# Altium integrated library ON Semi Power Mgt Voltage Regulator.IntLib: 495 symbols (part 7 of 8)
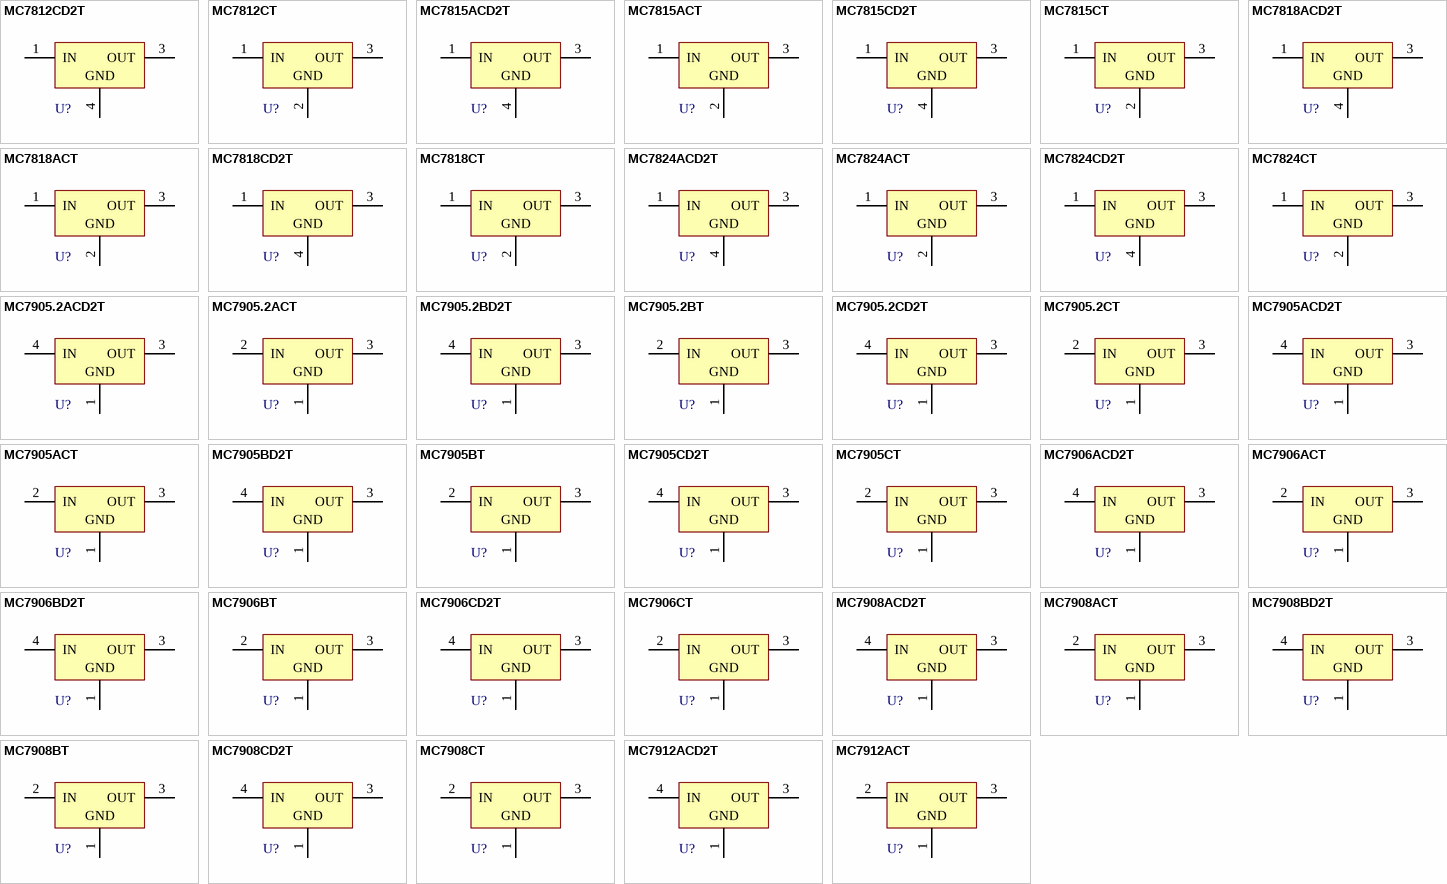
[diagram p18: symbols MC7812CD2T to MC7912ACT]

## MC7906CD2T
designator U?
Three-Terminal Negative Voltage Regulator; Note: Pin 4 is TAB; Pin 2 is trimmed; Published: 15-Apr-2002; DatasheetVersion: 1996; PackageVersion: 1997; PackageReference: 936-03; Publisher: Altium Limited; PackageDescription: D2-PAK/TO-263-AB; 3 Leads (1 Cropped); Body 14.7 (inc. leads) x 10.2 mm (LxW max); ComponentLink1Description: Manufacturer Link; ComponentLink1URL: http://www.onsemi.com/site/products/taxonomy/0,4438,503,00.html; ComponentLink2Description: Datasheet; ComponentLink2URL: http://www.onsemi.com/pub/Collateral/MC7900-D.PDF
footprint 936-03 (D2-PAK/TO-263-AB; 3 Leads (1 Cropped); Body 14.7 (inc. leads) x 10.2 mm (LxW max))
pins: 1 GND (power), 3 OUT (power), 4 IN (power)

## MC7906CT
designator U?
Three-Terminal Negative Voltage Regulator; Note: Heatsink surface connected to Pin 2; Published: 15-Apr-2002; DatasheetVersion: 1996; PackageReference: 221A-09; Publisher: Altium Limited; PackageDescription: TO, Thru-Hole, Vertical, Heatsink Mounted; 3 In-Line Leads; Pitch 2.54 mm; Code_JEDEC: TO-262-AA; ComponentLink1Description: Manufacturer Link; ComponentLink1URL: http://www.onsemi.com/site/products/taxonomy/0,4438,503,00.html; ComponentLink2Description: Datasheet; ComponentLink2URL: http://www.onsemi.com/pub/Collateral/MC7900-D.PDF
footprint 221A-09 (TO, Thru-Hole, Vertical, Heatsink Mounted; 3 In-Line Leads; Pitch 2.54 mm)
pins: 1 GND (power), 2 IN (power), 3 OUT (power)

## MC7908ACD2T
designator U?
Three-Terminal Negative Voltage Regulator; Note: Pin 4 is TAB; Pin 2 is trimmed; Published: 15-Apr-2002; DatasheetVersion: 1996; PackageVersion: 1997; PackageReference: 936-03; Publisher: Altium Limited; PackageDescription: D2-PAK/TO-263-AB; 3 Leads (1 Cropped); Body 14.7 (inc. leads) x 10.2 mm (LxW max); ComponentLink1Description: Manufacturer Link; ComponentLink1URL: http://www.onsemi.com/site/products/taxonomy/0,4438,503,00.html; ComponentLink2Description: Datasheet; ComponentLink2URL: http://www.onsemi.com/pub/Collateral/MC7900-D.PDF
footprint 936-03 (D2-PAK/TO-263-AB; 3 Leads (1 Cropped); Body 14.7 (inc. leads) x 10.2 mm (LxW max))
pins: 1 GND (power), 3 OUT (power), 4 IN (power)

## MC7908ACT
designator U?
Three-Terminal Negative Voltage Regulator; Note: Heatsink surface connected to Pin 2; Published: 15-Apr-2002; DatasheetVersion: 1996; PackageReference: 221A-09; Publisher: Altium Limited; PackageDescription: TO, Thru-Hole, Vertical, Heatsink Mounted; 3 In-Line Leads; Pitch 2.54 mm; Code_JEDEC: TO-262-AA; ComponentLink1Description: Manufacturer Link; ComponentLink1URL: http://www.onsemi.com/site/products/taxonomy/0,4438,503,00.html; ComponentLink2Description: Datasheet; ComponentLink2URL: http://www.onsemi.com/pub/Collateral/MC7900-D.PDF
footprint 221A-09 (TO, Thru-Hole, Vertical, Heatsink Mounted; 3 In-Line Leads; Pitch 2.54 mm)
pins: 1 GND (power), 2 IN (power), 3 OUT (power)

## MC7908BD2T
designator U?
Three-Terminal Negative Voltage Regulator; Note: Pin 4 is TAB; Pin 2 is trimmed; Published: 15-Apr-2002; DatasheetVersion: 1996; PackageVersion: 1997; PackageReference: 936-03; Publisher: Altium Limited; PackageDescription: D2-PAK/TO-263-AB; 3 Leads (1 Cropped); Body 14.7 (inc. leads) x 10.2 mm (LxW max); ComponentLink1Description: Manufacturer Link; ComponentLink1URL: http://www.onsemi.com/site/products/taxonomy/0,4438,503,00.html; ComponentLink2Description: Datasheet; ComponentLink2URL: http://www.onsemi.com/pub/Collateral/MC7900-D.PDF
footprint 936-03 (D2-PAK/TO-263-AB; 3 Leads (1 Cropped); Body 14.7 (inc. leads) x 10.2 mm (LxW max))
pins: 1 GND (power), 3 OUT (power), 4 IN (power)

## MC7908BT
designator U?
Three-Terminal Negative Voltage Regulator; Note: Heatsink surface connected to Pin 2; Published: 15-Apr-2002; DatasheetVersion: 1996; PackageReference: 221A-09; Publisher: Altium Limited; PackageDescription: TO, Thru-Hole, Vertical, Heatsink Mounted; 3 In-Line Leads; Pitch 2.54 mm; Code_JEDEC: TO-262-AA; ComponentLink1Description: Manufacturer Link; ComponentLink1URL: http://www.onsemi.com/site/products/taxonomy/0,4438,503,00.html; ComponentLink2Description: Datasheet; ComponentLink2URL: http://www.onsemi.com/pub/Collateral/MC7900-D.PDF
footprint 221A-09 (TO, Thru-Hole, Vertical, Heatsink Mounted; 3 In-Line Leads; Pitch 2.54 mm)
pins: 1 GND (power), 2 IN (power), 3 OUT (power)

## MC7908CD2T
designator U?
Three-Terminal Negative Voltage Regulator; Note: Pin 4 is TAB; Pin 2 is trimmed; Published: 15-Apr-2002; DatasheetVersion: 1996; PackageVersion: 1997; PackageReference: 936-03; Publisher: Altium Limited; PackageDescription: D2-PAK/TO-263-AB; 3 Leads (1 Cropped); Body 14.7 (inc. leads) x 10.2 mm (LxW max); ComponentLink1Description: Manufacturer Link; ComponentLink1URL: http://www.onsemi.com/site/products/taxonomy/0,4438,503,00.html; ComponentLink2Description: Datasheet; ComponentLink2URL: http://www.onsemi.com/pub/Collateral/MC7900-D.PDF
footprint 936-03 (D2-PAK/TO-263-AB; 3 Leads (1 Cropped); Body 14.7 (inc. leads) x 10.2 mm (LxW max))
pins: 1 GND (power), 3 OUT (power), 4 IN (power)

## MC7908CT
designator U?
Three-Terminal Negative Voltage Regulator; Note: Heatsink surface connected to Pin 2; Published: 15-Apr-2002; DatasheetVersion: 1996; PackageReference: 221A-09; Publisher: Altium Limited; PackageDescription: TO, Thru-Hole, Vertical, Heatsink Mounted; 3 In-Line Leads; Pitch 2.54 mm; Code_JEDEC: TO-262-AA; ComponentLink1Description: Manufacturer Link; ComponentLink1URL: http://www.onsemi.com/site/products/taxonomy/0,4438,503,00.html; ComponentLink2Description: Datasheet; ComponentLink2URL: http://www.onsemi.com/pub/Collateral/MC7900-D.PDF
footprint 221A-09 (TO, Thru-Hole, Vertical, Heatsink Mounted; 3 In-Line Leads; Pitch 2.54 mm)
pins: 1 GND (power), 2 IN (power), 3 OUT (power)

## MC7912ACD2T
designator U?
Three-Terminal Negative Voltage Regulator; Note: Pin 4 is TAB; Pin 2 is trimmed; Published: 15-Apr-2002; DatasheetVersion: 1996; PackageVersion: 1997; PackageReference: 936-03; Publisher: Altium Limited; PackageDescription: D2-PAK/TO-263-AB; 3 Leads (1 Cropped); Body 14.7 (inc. leads) x 10.2 mm (LxW max); ComponentLink1Description: Manufacturer Link; ComponentLink1URL: http://www.onsemi.com/site/products/taxonomy/0,4438,503,00.html; ComponentLink2Description: Datasheet; ComponentLink2URL: http://www.onsemi.com/pub/Collateral/MC7900-D.PDF
footprint 936-03 (D2-PAK/TO-263-AB; 3 Leads (1 Cropped); Body 14.7 (inc. leads) x 10.2 mm (LxW max))
pins: 1 GND (power), 3 OUT (power), 4 IN (power)

## MC7912ACT
designator U?
Three-Terminal Negative Voltage Regulator; Note: Heatsink surface connected to Pin 2; Published: 15-Apr-2002; DatasheetVersion: 1996; PackageReference: 221A-09; Publisher: Altium Limited; PackageDescription: TO, Thru-Hole, Vertical, Heatsink Mounted; 3 In-Line Leads; Pitch 2.54 mm; Code_JEDEC: TO-262-AA; ComponentLink1Description: Manufacturer Link; ComponentLink1URL: http://www.onsemi.com/site/products/taxonomy/0,4438,503,00.html; ComponentLink2Description: Datasheet; ComponentLink2URL: http://www.onsemi.com/pub/Collateral/MC7900-D.PDF
footprint 221A-09 (TO, Thru-Hole, Vertical, Heatsink Mounted; 3 In-Line Leads; Pitch 2.54 mm)
pins: 1 GND (power), 2 IN (power), 3 OUT (power)

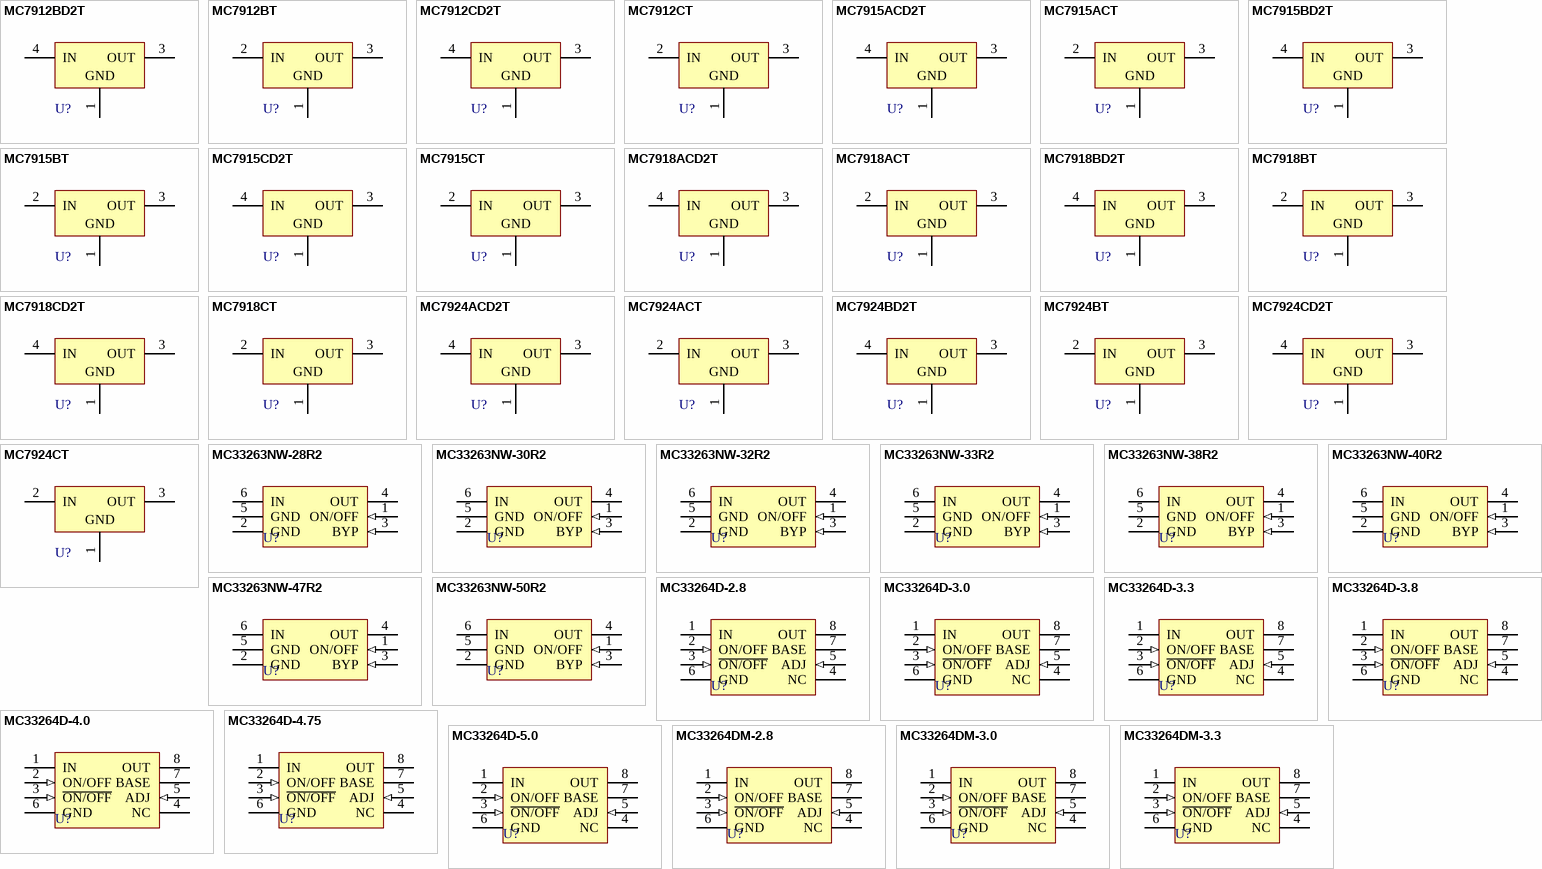
[diagram p10: symbols MC7912BD2T to MC33264DM-3.3]

## MC7912BD2T
designator U?
Three-Terminal Negative Voltage Regulator; Note: Pin 4 is TAB; Pin 2 is trimmed; Published: 15-Apr-2002; DatasheetVersion: 1996; PackageVersion: 1997; PackageReference: 936-03; Publisher: Altium Limited; PackageDescription: D2-PAK/TO-263-AB; 3 Leads (1 Cropped); Body 14.7 (inc. leads) x 10.2 mm (LxW max); ComponentLink1Description: Manufacturer Link; ComponentLink1URL: http://www.onsemi.com/site/products/taxonomy/0,4438,503,00.html; ComponentLink2Description: Datasheet; ComponentLink2URL: http://www.onsemi.com/pub/Collateral/MC7900-D.PDF
footprint 936-03 (D2-PAK/TO-263-AB; 3 Leads (1 Cropped); Body 14.7 (inc. leads) x 10.2 mm (LxW max))
pins: 1 GND (power), 3 OUT (power), 4 IN (power)

## MC7912BT
designator U?
Three-Terminal Negative Voltage Regulator; Note: Heatsink surface connected to Pin 2; Published: 15-Apr-2002; DatasheetVersion: 1996; PackageReference: 221A-09; Publisher: Altium Limited; PackageDescription: TO, Thru-Hole, Vertical, Heatsink Mounted; 3 In-Line Leads; Pitch 2.54 mm; Code_JEDEC: TO-262-AA; ComponentLink1Description: Manufacturer Link; ComponentLink1URL: http://www.onsemi.com/site/products/taxonomy/0,4438,503,00.html; ComponentLink2Description: Datasheet; ComponentLink2URL: http://www.onsemi.com/pub/Collateral/MC7900-D.PDF
footprint 221A-09 (TO, Thru-Hole, Vertical, Heatsink Mounted; 3 In-Line Leads; Pitch 2.54 mm)
pins: 1 GND (power), 2 IN (power), 3 OUT (power)

## MC7912CD2T
designator U?
Three-Terminal Negative Voltage Regulator; Note: Pin 4 is TAB; Pin 2 is trimmed; Published: 15-Apr-2002; DatasheetVersion: 1996; PackageVersion: 1997; PackageReference: 936-03; Publisher: Altium Limited; PackageDescription: D2-PAK/TO-263-AB; 3 Leads (1 Cropped); Body 14.7 (inc. leads) x 10.2 mm (LxW max); ComponentLink1Description: Manufacturer Link; ComponentLink1URL: http://www.onsemi.com/site/products/taxonomy/0,4438,503,00.html; ComponentLink2Description: Datasheet; ComponentLink2URL: http://www.onsemi.com/pub/Collateral/MC7900-D.PDF
footprint 936-03 (D2-PAK/TO-263-AB; 3 Leads (1 Cropped); Body 14.7 (inc. leads) x 10.2 mm (LxW max))
pins: 1 GND (power), 3 OUT (power), 4 IN (power)

## MC7912CT
designator U?
Three-Terminal Negative Voltage Regulator; Note: Heatsink surface connected to Pin 2; Published: 15-Apr-2002; DatasheetVersion: 1996; PackageReference: 221A-09; Publisher: Altium Limited; PackageDescription: TO, Thru-Hole, Vertical, Heatsink Mounted; 3 In-Line Leads; Pitch 2.54 mm; Code_JEDEC: TO-262-AA; ComponentLink1Description: Manufacturer Link; ComponentLink1URL: http://www.onsemi.com/site/products/taxonomy/0,4438,503,00.html; ComponentLink2Description: Datasheet; ComponentLink2URL: http://www.onsemi.com/pub/Collateral/MC7900-D.PDF
footprint 221A-09 (TO, Thru-Hole, Vertical, Heatsink Mounted; 3 In-Line Leads; Pitch 2.54 mm)
pins: 1 GND (power), 2 IN (power), 3 OUT (power)

## MC7915ACD2T
designator U?
Three-Terminal Negative Voltage Regulator; Note: Pin 4 is TAB; Pin 2 is trimmed; Published: 15-Apr-2002; DatasheetVersion: 1996; PackageVersion: 1997; PackageReference: 936-03; Publisher: Altium Limited; PackageDescription: D2-PAK/TO-263-AB; 3 Leads (1 Cropped); Body 14.7 (inc. leads) x 10.2 mm (LxW max); ComponentLink1Description: Manufacturer Link; ComponentLink1URL: http://www.onsemi.com/site/products/taxonomy/0,4438,503,00.html; ComponentLink2Description: Datasheet; ComponentLink2URL: http://www.onsemi.com/pub/Collateral/MC7900-D.PDF
footprint 936-03 (D2-PAK/TO-263-AB; 3 Leads (1 Cropped); Body 14.7 (inc. leads) x 10.2 mm (LxW max))
pins: 1 GND (power), 3 OUT (power), 4 IN (power)

## MC7915ACT
designator U?
Three-Terminal Negative Voltage Regulator; Note: Heatsink surface connected to Pin 2; Published: 15-Apr-2002; DatasheetVersion: 1996; PackageReference: 221A-09; Publisher: Altium Limited; PackageDescription: TO, Thru-Hole, Vertical, Heatsink Mounted; 3 In-Line Leads; Pitch 2.54 mm; Code_JEDEC: TO-262-AA; ComponentLink1Description: Manufacturer Link; ComponentLink1URL: http://www.onsemi.com/site/products/taxonomy/0,4438,503,00.html; ComponentLink2Description: Datasheet; ComponentLink2URL: http://www.onsemi.com/pub/Collateral/MC7900-D.PDF
footprint 221A-09 (TO, Thru-Hole, Vertical, Heatsink Mounted; 3 In-Line Leads; Pitch 2.54 mm)
pins: 1 GND (power), 2 IN (power), 3 OUT (power)

## MC7915BD2T
designator U?
Three-Terminal Negative Voltage Regulator; Note: Pin 4 is TAB; Pin 2 is trimmed; Published: 15-Apr-2002; DatasheetVersion: 1996; PackageVersion: 1997; PackageReference: 936-03; Publisher: Altium Limited; PackageDescription: D2-PAK/TO-263-AB; 3 Leads (1 Cropped); Body 14.7 (inc. leads) x 10.2 mm (LxW max); ComponentLink1Description: Manufacturer Link; ComponentLink1URL: http://www.onsemi.com/site/products/taxonomy/0,4438,503,00.html; ComponentLink2Description: Datasheet; ComponentLink2URL: http://www.onsemi.com/pub/Collateral/MC7900-D.PDF
footprint 936-03 (D2-PAK/TO-263-AB; 3 Leads (1 Cropped); Body 14.7 (inc. leads) x 10.2 mm (LxW max))
pins: 1 GND (power), 3 OUT (power), 4 IN (power)

## MC7915BT
designator U?
Three-Terminal Negative Voltage Regulator; Note: Heatsink surface connected to Pin 2; Published: 15-Apr-2002; DatasheetVersion: 1996; PackageReference: 221A-09; Publisher: Altium Limited; PackageDescription: TO, Thru-Hole, Vertical, Heatsink Mounted; 3 In-Line Leads; Pitch 2.54 mm; Code_JEDEC: TO-262-AA; ComponentLink1Description: Manufacturer Link; ComponentLink1URL: http://www.onsemi.com/site/products/taxonomy/0,4438,503,00.html; ComponentLink2Description: Datasheet; ComponentLink2URL: http://www.onsemi.com/pub/Collateral/MC7900-D.PDF
footprint 221A-09 (TO, Thru-Hole, Vertical, Heatsink Mounted; 3 In-Line Leads; Pitch 2.54 mm)
pins: 1 GND (power), 2 IN (power), 3 OUT (power)

## MC7915CD2T
designator U?
Three-Terminal Negative Voltage Regulator; Note: Pin 4 is TAB; Pin 2 is trimmed; Published: 15-Apr-2002; DatasheetVersion: 1996; PackageVersion: 1997; PackageReference: 936-03; Publisher: Altium Limited; PackageDescription: D2-PAK/TO-263-AB; 3 Leads (1 Cropped); Body 14.7 (inc. leads) x 10.2 mm (LxW max); ComponentLink1Description: Manufacturer Link; ComponentLink1URL: http://www.onsemi.com/site/products/taxonomy/0,4438,503,00.html; ComponentLink2Description: Datasheet; ComponentLink2URL: http://www.onsemi.com/pub/Collateral/MC7900-D.PDF
footprint 936-03 (D2-PAK/TO-263-AB; 3 Leads (1 Cropped); Body 14.7 (inc. leads) x 10.2 mm (LxW max))
pins: 1 GND (power), 3 OUT (power), 4 IN (power)

## MC7915CT
designator U?
Three-Terminal Negative Voltage Regulator; Note: Heatsink surface connected to Pin 2; Published: 15-Apr-2002; DatasheetVersion: 1996; PackageReference: 221A-09; Publisher: Altium Limited; PackageDescription: TO, Thru-Hole, Vertical, Heatsink Mounted; 3 In-Line Leads; Pitch 2.54 mm; Code_JEDEC: TO-262-AA; ComponentLink1Description: Manufacturer Link; ComponentLink1URL: http://www.onsemi.com/site/products/taxonomy/0,4438,503,00.html; ComponentLink2Description: Datasheet; ComponentLink2URL: http://www.onsemi.com/pub/Collateral/MC7900-D.PDF
footprint 221A-09 (TO, Thru-Hole, Vertical, Heatsink Mounted; 3 In-Line Leads; Pitch 2.54 mm)
pins: 1 GND (power), 2 IN (power), 3 OUT (power)

## MC7918ACD2T
designator U?
Three-Terminal Negative Voltage Regulator; Note: Pin 4 is TAB; Pin 2 is trimmed; Published: 15-Apr-2002; DatasheetVersion: 1996; PackageVersion: 1997; PackageReference: 936-03; Publisher: Altium Limited; PackageDescription: D2-PAK/TO-263-AB; 3 Leads (1 Cropped); Body 14.7 (inc. leads) x 10.2 mm (LxW max); ComponentLink1Description: Manufacturer Link; ComponentLink1URL: http://www.onsemi.com/site/products/taxonomy/0,4438,503,00.html; ComponentLink2Description: Datasheet; ComponentLink2URL: http://www.onsemi.com/pub/Collateral/MC7900-D.PDF
footprint 936-03 (D2-PAK/TO-263-AB; 3 Leads (1 Cropped); Body 14.7 (inc. leads) x 10.2 mm (LxW max))
pins: 1 GND (power), 3 OUT (power), 4 IN (power)

## MC7918ACT
designator U?
Three-Terminal Negative Voltage Regulator; Note: Heatsink surface connected to Pin 2; Published: 15-Apr-2002; DatasheetVersion: 1996; PackageReference: 221A-09; Publisher: Altium Limited; PackageDescription: TO, Thru-Hole, Vertical, Heatsink Mounted; 3 In-Line Leads; Pitch 2.54 mm; Code_JEDEC: TO-262-AA; ComponentLink1Description: Manufacturer Link; ComponentLink1URL: http://www.onsemi.com/site/products/taxonomy/0,4438,503,00.html; ComponentLink2Description: Datasheet; ComponentLink2URL: http://www.onsemi.com/pub/Collateral/MC7900-D.PDF
footprint 221A-09 (TO, Thru-Hole, Vertical, Heatsink Mounted; 3 In-Line Leads; Pitch 2.54 mm)
pins: 1 GND (power), 2 IN (power), 3 OUT (power)

## MC7918BD2T
designator U?
Three-Terminal Negative Voltage Regulator; Note: Pin 4 is TAB; Pin 2 is trimmed; Published: 15-Apr-2002; DatasheetVersion: 1996; PackageVersion: 1997; PackageReference: 936-03; Publisher: Altium Limited; PackageDescription: D2-PAK/TO-263-AB; 3 Leads (1 Cropped); Body 14.7 (inc. leads) x 10.2 mm (LxW max); ComponentLink1Description: Manufacturer Link; ComponentLink1URL: http://www.onsemi.com/site/products/taxonomy/0,4438,503,00.html; ComponentLink2Description: Datasheet; ComponentLink2URL: http://www.onsemi.com/pub/Collateral/MC7900-D.PDF
footprint 936-03 (D2-PAK/TO-263-AB; 3 Leads (1 Cropped); Body 14.7 (inc. leads) x 10.2 mm (LxW max))
pins: 1 GND (power), 3 OUT (power), 4 IN (power)

## MC7918BT
designator U?
Three-Terminal Negative Voltage Regulator; Note: Heatsink surface connected to Pin 2; Published: 15-Apr-2002; DatasheetVersion: 1996; PackageReference: 221A-09; Publisher: Altium Limited; PackageDescription: TO, Thru-Hole, Vertical, Heatsink Mounted; 3 In-Line Leads; Pitch 2.54 mm; Code_JEDEC: TO-262-AA; ComponentLink1Description: Manufacturer Link; ComponentLink1URL: http://www.onsemi.com/site/products/taxonomy/0,4438,503,00.html; ComponentLink2Description: Datasheet; ComponentLink2URL: http://www.onsemi.com/pub/Collateral/MC7900-D.PDF
footprint 221A-09 (TO, Thru-Hole, Vertical, Heatsink Mounted; 3 In-Line Leads; Pitch 2.54 mm)
pins: 1 GND (power), 2 IN (power), 3 OUT (power)

## MC7918CD2T
designator U?
Three-Terminal Negative Voltage Regulator; Note: Pin 4 is TAB; Pin 2 is trimmed; Published: 15-Apr-2002; DatasheetVersion: 1996; PackageVersion: 1997; PackageReference: 936-03; Publisher: Altium Limited; PackageDescription: D2-PAK/TO-263-AB; 3 Leads (1 Cropped); Body 14.7 (inc. leads) x 10.2 mm (LxW max); ComponentLink1Description: Manufacturer Link; ComponentLink1URL: http://www.onsemi.com/site/products/taxonomy/0,4438,503,00.html; ComponentLink2Description: Datasheet; ComponentLink2URL: http://www.onsemi.com/pub/Collateral/MC7900-D.PDF
footprint 936-03 (D2-PAK/TO-263-AB; 3 Leads (1 Cropped); Body 14.7 (inc. leads) x 10.2 mm (LxW max))
pins: 1 GND (power), 3 OUT (power), 4 IN (power)

## MC7918CT
designator U?
Three-Terminal Negative Voltage Regulator; Note: Heatsink surface connected to Pin 2; Published: 15-Apr-2002; DatasheetVersion: 1996; PackageReference: 221A-09; Publisher: Altium Limited; PackageDescription: TO, Thru-Hole, Vertical, Heatsink Mounted; 3 In-Line Leads; Pitch 2.54 mm; Code_JEDEC: TO-262-AA; ComponentLink1Description: Manufacturer Link; ComponentLink1URL: http://www.onsemi.com/site/products/taxonomy/0,4438,503,00.html; ComponentLink2Description: Datasheet; ComponentLink2URL: http://www.onsemi.com/pub/Collateral/MC7900-D.PDF
footprint 221A-09 (TO, Thru-Hole, Vertical, Heatsink Mounted; 3 In-Line Leads; Pitch 2.54 mm)
pins: 1 GND (power), 2 IN (power), 3 OUT (power)

## MC7924ACD2T
designator U?
Three-Terminal Negative Voltage Regulator; Note: Pin 4 is TAB; Pin 2 is trimmed; Published: 15-Apr-2002; DatasheetVersion: 1996; PackageVersion: 1997; PackageReference: 936-03; Publisher: Altium Limited; PackageDescription: D2-PAK/TO-263-AB; 3 Leads (1 Cropped); Body 14.7 (inc. leads) x 10.2 mm (LxW max); ComponentLink1Description: Manufacturer Link; ComponentLink1URL: http://www.onsemi.com/site/products/taxonomy/0,4438,503,00.html; ComponentLink2Description: Datasheet; ComponentLink2URL: http://www.onsemi.com/pub/Collateral/MC7900-D.PDF
footprint 936-03 (D2-PAK/TO-263-AB; 3 Leads (1 Cropped); Body 14.7 (inc. leads) x 10.2 mm (LxW max))
pins: 1 GND (power), 3 OUT (power), 4 IN (power)

## MC7924ACT
designator U?
Three-Terminal Negative Voltage Regulator; Note: Heatsink surface connected to Pin 2; Published: 15-Apr-2002; DatasheetVersion: 1996; PackageReference: 221A-09; Publisher: Altium Limited; PackageDescription: TO, Thru-Hole, Vertical, Heatsink Mounted; 3 In-Line Leads; Pitch 2.54 mm; Code_JEDEC: TO-262-AA; ComponentLink1Description: Manufacturer Link; ComponentLink1URL: http://www.onsemi.com/site/products/taxonomy/0,4438,503,00.html; ComponentLink2Description: Datasheet; ComponentLink2URL: http://www.onsemi.com/pub/Collateral/MC7900-D.PDF
footprint 221A-09 (TO, Thru-Hole, Vertical, Heatsink Mounted; 3 In-Line Leads; Pitch 2.54 mm)
pins: 1 GND (power), 2 IN (power), 3 OUT (power)

## MC7924BD2T
designator U?
Three-Terminal Negative Voltage Regulator; Note: Pin 4 is TAB; Pin 2 is trimmed; Published: 15-Apr-2002; DatasheetVersion: 1996; PackageVersion: 1997; PackageReference: 936-03; Publisher: Altium Limited; PackageDescription: D2-PAK/TO-263-AB; 3 Leads (1 Cropped); Body 14.7 (inc. leads) x 10.2 mm (LxW max); ComponentLink1Description: Manufacturer Link; ComponentLink1URL: http://www.onsemi.com/site/products/taxonomy/0,4438,503,00.html; ComponentLink2Description: Datasheet; ComponentLink2URL: http://www.onsemi.com/pub/Collateral/MC7900-D.PDF
footprint 936-03 (D2-PAK/TO-263-AB; 3 Leads (1 Cropped); Body 14.7 (inc. leads) x 10.2 mm (LxW max))
pins: 1 GND (power), 3 OUT (power), 4 IN (power)

## MC7924BT
designator U?
Three-Terminal Negative Voltage Regulator; Note: Heatsink surface connected to Pin 2; Published: 15-Apr-2002; DatasheetVersion: 1996; PackageReference: 221A-09; Publisher: Altium Limited; PackageDescription: TO, Thru-Hole, Vertical, Heatsink Mounted; 3 In-Line Leads; Pitch 2.54 mm; Code_JEDEC: TO-262-AA; ComponentLink1Description: Manufacturer Link; ComponentLink1URL: http://www.onsemi.com/site/products/taxonomy/0,4438,503,00.html; ComponentLink2Description: Datasheet; ComponentLink2URL: http://www.onsemi.com/pub/Collateral/MC7900-D.PDF
footprint 221A-09 (TO, Thru-Hole, Vertical, Heatsink Mounted; 3 In-Line Leads; Pitch 2.54 mm)
pins: 1 GND (power), 2 IN (power), 3 OUT (power)

## MC7924CD2T
designator U?
Three-Terminal Negative Voltage Regulator; Note: Pin 4 is TAB; Pin 2 is trimmed; Published: 15-Apr-2002; DatasheetVersion: 1996; PackageVersion: 1997; PackageReference: 936-03; Publisher: Altium Limited; PackageDescription: D2-PAK/TO-263-AB; 3 Leads (1 Cropped); Body 14.7 (inc. leads) x 10.2 mm (LxW max); ComponentLink1Description: Manufacturer Link; ComponentLink1URL: http://www.onsemi.com/site/products/taxonomy/0,4438,503,00.html; ComponentLink2Description: Datasheet; ComponentLink2URL: http://www.onsemi.com/pub/Collateral/MC7900-D.PDF
footprint 936-03 (D2-PAK/TO-263-AB; 3 Leads (1 Cropped); Body 14.7 (inc. leads) x 10.2 mm (LxW max))
pins: 1 GND (power), 3 OUT (power), 4 IN (power)

## MC7924CT
designator U?
Three-Terminal Negative Voltage Regulator; Note: Heatsink surface connected to Pin 2; Published: 15-Apr-2002; DatasheetVersion: 1996; PackageReference: 221A-09; Publisher: Altium Limited; PackageDescription: TO, Thru-Hole, Vertical, Heatsink Mounted; 3 In-Line Leads; Pitch 2.54 mm; Code_JEDEC: TO-262-AA; ComponentLink1Description: Manufacturer Link; ComponentLink1URL: http://www.onsemi.com/site/products/taxonomy/0,4438,503,00.html; ComponentLink2Description: Datasheet; ComponentLink2URL: http://www.onsemi.com/pub/Collateral/MC7900-D.PDF
footprint 221A-09 (TO, Thru-Hole, Vertical, Heatsink Mounted; 3 In-Line Leads; Pitch 2.54 mm)
pins: 1 GND (power), 2 IN (power), 3 OUT (power)

## MC33263NW-28R2
designator U?
Ultra Low Noise 150 mA Low Dropout Voltage Regulator with ON/OFF Control; Published: 15-Apr-2002; LatestRevisionDate: 19-Mar-2004; LatestRevisionNote: Silkscreen size reduced.; DatasheetVersion: Apr-2000; PackageVersion: Apr-2000; PackageReference: 318J-01; Publisher: Altium Limited; PackageDescription: Small Outline; 6 Leads; Body 3.6 x 3.6 mm, inc. leads (LxW max); ComponentLink1Description: Manufacturer Link; ComponentLink1URL: http://www.onsemi.com/site/products/taxonomy/0,4438,503,00.html; ComponentLink2Description: Datasheet; ComponentLink2URL: http://www.onsemi.com/pub/Collateral/MC33263-D.PDF
footprint 318J-01 (Small Outline; 6 Leads; Body 3.6 x 3.6 mm, inc. leads (LxW max))
pins: 1 ON/OFF (in), 2 GND (power), 3 BYP (in), 4 OUT (power), 5 GND (power), 6 IN (power)

## MC33263NW-30R2
designator U?
Ultra Low Noise 150 mA Low Dropout Voltage Regulator with ON/OFF Control; Published: 15-Apr-2002; LatestRevisionDate: 19-Mar-2004; LatestRevisionNote: Silkscreen size reduced.; DatasheetVersion: Apr-2000; PackageVersion: Apr-2000; PackageReference: 318J-01; Publisher: Altium Limited; PackageDescription: Small Outline; 6 Leads; Body 3.6 x 3.6 mm, inc. leads (LxW max); ComponentLink1Description: Manufacturer Link; ComponentLink1URL: http://www.onsemi.com/site/products/taxonomy/0,4438,503,00.html; ComponentLink2Description: Datasheet; ComponentLink2URL: http://www.onsemi.com/pub/Collateral/MC33263-D.PDF
footprint 318J-01 (Small Outline; 6 Leads; Body 3.6 x 3.6 mm, inc. leads (LxW max))
pins: 1 ON/OFF (in), 2 GND (power), 3 BYP (in), 4 OUT (power), 5 GND (power), 6 IN (power)

## MC33263NW-32R2
designator U?
Ultra Low Noise 150 mA Low Dropout Voltage Regulator with ON/OFF Control; Published: 15-Apr-2002; LatestRevisionDate: 19-Mar-2004; LatestRevisionNote: Silkscreen size reduced.; DatasheetVersion: Apr-2000; PackageVersion: Apr-2000; PackageReference: 318J-01; Publisher: Altium Limited; PackageDescription: Small Outline; 6 Leads; Body 3.6 x 3.6 mm, inc. leads (LxW max); ComponentLink1Description: Manufacturer Link; ComponentLink1URL: http://www.onsemi.com/site/products/taxonomy/0,4438,503,00.html; ComponentLink2Description: Datasheet; ComponentLink2URL: http://www.onsemi.com/pub/Collateral/MC33263-D.PDF
footprint 318J-01 (Small Outline; 6 Leads; Body 3.6 x 3.6 mm, inc. leads (LxW max))
pins: 1 ON/OFF (in), 2 GND (power), 3 BYP (in), 4 OUT (power), 5 GND (power), 6 IN (power)

## MC33263NW-33R2
designator U?
Ultra Low Noise 150 mA Low Dropout Voltage Regulator with ON/OFF Control; Published: 15-Apr-2002; LatestRevisionDate: 19-Mar-2004; LatestRevisionNote: Silkscreen size reduced.; DatasheetVersion: Apr-2000; PackageVersion: Apr-2000; PackageReference: 318J-01; Publisher: Altium Limited; PackageDescription: Small Outline; 6 Leads; Body 3.6 x 3.6 mm, inc. leads (LxW max); ComponentLink1Description: Manufacturer Link; ComponentLink1URL: http://www.onsemi.com/site/products/taxonomy/0,4438,503,00.html; ComponentLink2Description: Datasheet; ComponentLink2URL: http://www.onsemi.com/pub/Collateral/MC33263-D.PDF
footprint 318J-01 (Small Outline; 6 Leads; Body 3.6 x 3.6 mm, inc. leads (LxW max))
pins: 1 ON/OFF (in), 2 GND (power), 3 BYP (in), 4 OUT (power), 5 GND (power), 6 IN (power)

## MC33263NW-38R2
designator U?
Ultra Low Noise 150 mA Low Dropout Voltage Regulator with ON/OFF Control; Published: 15-Apr-2002; LatestRevisionDate: 19-Mar-2004; LatestRevisionNote: Silkscreen size reduced.; DatasheetVersion: Apr-2000; PackageVersion: Apr-2000; PackageReference: 318J-01; Publisher: Altium Limited; PackageDescription: Small Outline; 6 Leads; Body 3.6 x 3.6 mm, inc. leads (LxW max); ComponentLink1Description: Manufacturer Link; ComponentLink1URL: http://www.onsemi.com/site/products/taxonomy/0,4438,503,00.html; ComponentLink2Description: Datasheet; ComponentLink2URL: http://www.onsemi.com/pub/Collateral/MC33263-D.PDF
footprint 318J-01 (Small Outline; 6 Leads; Body 3.6 x 3.6 mm, inc. leads (LxW max))
pins: 1 ON/OFF (in), 2 GND (power), 3 BYP (in), 4 OUT (power), 5 GND (power), 6 IN (power)

## MC33263NW-40R2
designator U?
Ultra Low Noise 150 mA Low Dropout Voltage Regulator with ON/OFF Control; Published: 15-Apr-2002; LatestRevisionDate: 19-Mar-2004; LatestRevisionNote: Silkscreen size reduced.; DatasheetVersion: Apr-2000; PackageVersion: Apr-2000; PackageReference: 318J-01; Publisher: Altium Limited; PackageDescription: Small Outline; 6 Leads; Body 3.6 x 3.6 mm, inc. leads (LxW max); ComponentLink1Description: Manufacturer Link; ComponentLink1URL: http://www.onsemi.com/site/products/taxonomy/0,4438,503,00.html; ComponentLink2Description: Datasheet; ComponentLink2URL: http://www.onsemi.com/pub/Collateral/MC33263-D.PDF
footprint 318J-01 (Small Outline; 6 Leads; Body 3.6 x 3.6 mm, inc. leads (LxW max))
pins: 1 ON/OFF (in), 2 GND (power), 3 BYP (in), 4 OUT (power), 5 GND (power), 6 IN (power)

## MC33263NW-47R2
designator U?
Ultra Low Noise 150 mA Low Dropout Voltage Regulator with ON/OFF Control; Published: 15-Apr-2002; LatestRevisionDate: 19-Mar-2004; LatestRevisionNote: Silkscreen size reduced.; DatasheetVersion: Apr-2000; PackageVersion: Apr-2000; PackageReference: 318J-01; Publisher: Altium Limited; PackageDescription: Small Outline; 6 Leads; Body 3.6 x 3.6 mm, inc. leads (LxW max); ComponentLink1Description: Manufacturer Link; ComponentLink1URL: http://www.onsemi.com/site/products/taxonomy/0,4438,503,00.html; ComponentLink2Description: Datasheet; ComponentLink2URL: http://www.onsemi.com/pub/Collateral/MC33263-D.PDF
footprint 318J-01 (Small Outline; 6 Leads; Body 3.6 x 3.6 mm, inc. leads (LxW max))
pins: 1 ON/OFF (in), 2 GND (power), 3 BYP (in), 4 OUT (power), 5 GND (power), 6 IN (power)

## MC33263NW-50R2
designator U?
Ultra Low Noise 150 mA Low Dropout Voltage Regulator with ON/OFF Control; Published: 15-Apr-2002; LatestRevisionDate: 19-Mar-2004; LatestRevisionNote: Silkscreen size reduced.; DatasheetVersion: Apr-2000; PackageVersion: Apr-2000; PackageReference: 318J-01; Publisher: Altium Limited; PackageDescription: Small Outline; 6 Leads; Body 3.6 x 3.6 mm, inc. leads (LxW max); ComponentLink1Description: Manufacturer Link; ComponentLink1URL: http://www.onsemi.com/site/products/taxonomy/0,4438,503,00.html; ComponentLink2Description: Datasheet; ComponentLink2URL: http://www.onsemi.com/pub/Collateral/MC33263-D.PDF
footprint 318J-01 (Small Outline; 6 Leads; Body 3.6 x 3.6 mm, inc. leads (LxW max))
pins: 1 ON/OFF (in), 2 GND (power), 3 BYP (in), 4 OUT (power), 5 GND (power), 6 IN (power)

## MC33264D-2.8
designator U?
Low Dropout MicroPower Voltage Regulator with On/Off Control; Published: 15-Apr-2002; LatestRevisionDate: 13-Apr-2006; LatestRevisionNote: IPC-7351 Footprint Added.; DatasheetVersion: 1998; PackageVersion: 1998; PackageReference: 751-05; Publisher: Altium Limited; PackageDescription: 8-Pin Small Outline Integrated Circuit 1.27 mm Pitch; Code_JEDEC: MS-012-AA; Code_IPC: SOIC127P600-8; ComponentLink1Description: Manufacturer Link; ComponentLink1URL: http://www.onsemi.com/site/products/taxonomy/0,4438,503,00.html; ComponentLink2Description: Datasheet; ComponentLink2URL: http://www.onsemi.com/pub/Collateral/MC33264-D.PDF
footprint 751-05_N (SOIC, 8-Leads, Body 4.9x3.9mm, Pitch 1.27mm, IPC Medium Density)
footprint 751-05_L (SOIC, 8-Leads, Body 4.9x3.9mm, Pitch 1.27mm, IPC High Density)
footprint 751-05_M (SOIC, 8-Leads, Body 4.9x3.9mm, Pitch 1.27mm, IPC Low Density)
pins: 1 IN (power), 2 ON/OFF (in), 3 ~{ON/OFF} (in), 4 NC, 5 ADJ (in), 6 GND (power), 7 BASE, 8 OUT (power)

## MC33264D-3.0
designator U?
Low Dropout MicroPower Voltage Regulator with On/Off Control; Published: 15-Apr-2002; LatestRevisionDate: 13-Apr-2006; LatestRevisionNote: IPC-7351 Footprint Added.; DatasheetVersion: 1998; PackageVersion: 1998; PackageReference: 751-05; Publisher: Altium Limited; PackageDescription: 8-Pin Small Outline Integrated Circuit 1.27 mm Pitch; Code_JEDEC: MS-012-AA; Code_IPC: SOIC127P600-8; ComponentLink1Description: Manufacturer Link; ComponentLink1URL: http://www.onsemi.com/site/products/taxonomy/0,4438,503,00.html; ComponentLink2Description: Datasheet; ComponentLink2URL: http://www.onsemi.com/pub/Collateral/MC33264-D.PDF
footprint 751-05_N (SOIC, 8-Leads, Body 4.9x3.9mm, Pitch 1.27mm, IPC Medium Density)
footprint 751-05_L (SOIC, 8-Leads, Body 4.9x3.9mm, Pitch 1.27mm, IPC High Density)
footprint 751-05_M (SOIC, 8-Leads, Body 4.9x3.9mm, Pitch 1.27mm, IPC Low Density)
pins: 1 IN (power), 2 ON/OFF (in), 3 ~{ON/OFF} (in), 4 NC, 5 ADJ (in), 6 GND (power), 7 BASE, 8 OUT (power)

## MC33264D-3.3
designator U?
Low Dropout MicroPower Voltage Regulator with On/Off Control; Published: 15-Apr-2002; LatestRevisionDate: 13-Apr-2006; LatestRevisionNote: IPC-7351 Footprint Added.; DatasheetVersion: 1998; PackageVersion: 1998; PackageReference: 751-05; Publisher: Altium Limited; PackageDescription: 8-Pin Small Outline Integrated Circuit 1.27 mm Pitch; Code_JEDEC: MS-012-AA; Code_IPC: SOIC127P600-8; ComponentLink1Description: Manufacturer Link; ComponentLink1URL: http://www.onsemi.com/site/products/taxonomy/0,4438,503,00.html; ComponentLink2Description: Datasheet; ComponentLink2URL: http://www.onsemi.com/pub/Collateral/MC33264-D.PDF
footprint 751-05_N (SOIC, 8-Leads, Body 4.9x3.9mm, Pitch 1.27mm, IPC Medium Density)
footprint 751-05_L (SOIC, 8-Leads, Body 4.9x3.9mm, Pitch 1.27mm, IPC High Density)
footprint 751-05_M (SOIC, 8-Leads, Body 4.9x3.9mm, Pitch 1.27mm, IPC Low Density)
pins: 1 IN (power), 2 ON/OFF (in), 3 ~{ON/OFF} (in), 4 NC, 5 ADJ (in), 6 GND (power), 7 BASE, 8 OUT (power)

## MC33264D-3.8
designator U?
Low Dropout MicroPower Voltage Regulator with On/Off Control; Published: 15-Apr-2002; LatestRevisionDate: 13-Apr-2006; LatestRevisionNote: IPC-7351 Footprint Added.; DatasheetVersion: 1998; PackageVersion: 1998; PackageReference: 751-05; Publisher: Altium Limited; PackageDescription: 8-Pin Small Outline Integrated Circuit 1.27 mm Pitch; Code_JEDEC: MS-012-AA; Code_IPC: SOIC127P600-8; ComponentLink1Description: Manufacturer Link; ComponentLink1URL: http://www.onsemi.com/site/products/taxonomy/0,4438,503,00.html; ComponentLink2Description: Datasheet; ComponentLink2URL: http://www.onsemi.com/pub/Collateral/MC33264-D.PDF
footprint 751-05_N (SOIC, 8-Leads, Body 4.9x3.9mm, Pitch 1.27mm, IPC Medium Density)
footprint 751-05_L (SOIC, 8-Leads, Body 4.9x3.9mm, Pitch 1.27mm, IPC High Density)
footprint 751-05_M (SOIC, 8-Leads, Body 4.9x3.9mm, Pitch 1.27mm, IPC Low Density)
pins: 1 IN (power), 2 ON/OFF (in), 3 ~{ON/OFF} (in), 4 NC, 5 ADJ (in), 6 GND (power), 7 BASE, 8 OUT (power)

## MC33264D-4.0
designator U?
Low Dropout MicroPower Voltage Regulator with On/Off Control; Published: 15-Apr-2002; LatestRevisionDate: 13-Apr-2006; LatestRevisionNote: IPC-7351 Footprint Added.; DatasheetVersion: 1998; PackageVersion: 1998; PackageReference: 751-05; Publisher: Altium Limited; PackageDescription: 8-Pin Small Outline Integrated Circuit 1.27 mm Pitch; Code_JEDEC: MS-012-AA; Code_IPC: SOIC127P600-8; ComponentLink1Description: Manufacturer Link; ComponentLink1URL: http://www.onsemi.com/site/products/taxonomy/0,4438,503,00.html; ComponentLink2Description: Datasheet; ComponentLink2URL: http://www.onsemi.com/pub/Collateral/MC33264-D.PDF
footprint 751-05_N (SOIC, 8-Leads, Body 4.9x3.9mm, Pitch 1.27mm, IPC Medium Density)
footprint 751-05_L (SOIC, 8-Leads, Body 4.9x3.9mm, Pitch 1.27mm, IPC High Density)
footprint 751-05_M (SOIC, 8-Leads, Body 4.9x3.9mm, Pitch 1.27mm, IPC Low Density)
pins: 1 IN (power), 2 ON/OFF (in), 3 ~{ON/OFF} (in), 4 NC, 5 ADJ (in), 6 GND (power), 7 BASE, 8 OUT (power)

## MC33264D-4.75
designator U?
Low Dropout MicroPower Voltage Regulator with On/Off Control; Published: 15-Apr-2002; LatestRevisionDate: 13-Apr-2006; LatestRevisionNote: IPC-7351 Footprint Added.; DatasheetVersion: 1998; PackageVersion: 1998; PackageReference: 751-05; Publisher: Altium Limited; PackageDescription: 8-Pin Small Outline Integrated Circuit 1.27 mm Pitch; Code_JEDEC: MS-012-AA; Code_IPC: SOIC127P600-8; ComponentLink1Description: Manufacturer Link; ComponentLink1URL: http://www.onsemi.com/site/products/taxonomy/0,4438,503,00.html; ComponentLink2Description: Datasheet; ComponentLink2URL: http://www.onsemi.com/pub/Collateral/MC33264-D.PDF
footprint 751-05_N (SOIC, 8-Leads, Body 4.9x3.9mm, Pitch 1.27mm, IPC Medium Density)
footprint 751-05_L (SOIC, 8-Leads, Body 4.9x3.9mm, Pitch 1.27mm, IPC High Density)
footprint 751-05_M (SOIC, 8-Leads, Body 4.9x3.9mm, Pitch 1.27mm, IPC Low Density)
pins: 1 IN (power), 2 ON/OFF (in), 3 ~{ON/OFF} (in), 4 NC, 5 ADJ (in), 6 GND (power), 7 BASE, 8 OUT (power)

## MC33264D-5.0
designator U?
Low Dropout MicroPower Voltage Regulator with On/Off Control; Published: 15-Apr-2002; LatestRevisionDate: 13-Apr-2006; LatestRevisionNote: IPC-7351 Footprint Added.; DatasheetVersion: 1998; PackageVersion: 1998; PackageReference: 751-05; Publisher: Altium Limited; PackageDescription: 8-Pin Small Outline Integrated Circuit 1.27 mm Pitch; Code_JEDEC: MS-012-AA; Code_IPC: SOIC127P600-8; ComponentLink1Description: Manufacturer Link; ComponentLink1URL: http://www.onsemi.com/site/products/taxonomy/0,4438,503,00.html; ComponentLink2Description: Datasheet; ComponentLink2URL: http://www.onsemi.com/pub/Collateral/MC33264-D.PDF
footprint 751-05_N (SOIC, 8-Leads, Body 4.9x3.9mm, Pitch 1.27mm, IPC Medium Density)
footprint 751-05_L (SOIC, 8-Leads, Body 4.9x3.9mm, Pitch 1.27mm, IPC High Density)
footprint 751-05_M (SOIC, 8-Leads, Body 4.9x3.9mm, Pitch 1.27mm, IPC Low Density)
pins: 1 IN (power), 2 ON/OFF (in), 3 ~{ON/OFF} (in), 4 NC, 5 ADJ (in), 6 GND (power), 7 BASE, 8 OUT (power)

## MC33264DM-2.8
designator U?
Low Dropout MicroPower Voltage Regulator with On/Off Control; Published: 15-Apr-2002; DatasheetVersion: 1998; PackageVersion: Oct-1999; PackageReference: 846A-02; Publisher: Altium Limited; PackageDescription: Shrink Small Outline; 8 Leads; Body Width 3 mm; Pitch 0.65 mm; ComponentLink1Description: Manufacturer Link; ComponentLink1URL: http://www.onsemi.com/site/products/taxonomy/0,4438,503,00.html; ComponentLink2Description: Datasheet; ComponentLink2URL: http://www.onsemi.com/pub/Collateral/MC33264-D.PDF
footprint 846A-02 (Shrink Small Outline; 8 Leads; Body Width 3 mm; Pitch 0.65 mm)
pins: 1 IN (power), 2 ON/OFF (in), 3 ~{ON/OFF} (in), 4 NC, 5 ADJ (in), 6 GND (power), 7 BASE, 8 OUT (power)

## MC33264DM-3.0
designator U?
Low Dropout MicroPower Voltage Regulator with On/Off Control; Published: 15-Apr-2002; DatasheetVersion: 1998; PackageVersion: Oct-1999; PackageReference: 846A-02; Publisher: Altium Limited; PackageDescription: Shrink Small Outline; 8 Leads; Body Width 3 mm; Pitch 0.65 mm; ComponentLink1Description: Manufacturer Link; ComponentLink1URL: http://www.onsemi.com/site/products/taxonomy/0,4438,503,00.html; ComponentLink2Description: Datasheet; ComponentLink2URL: http://www.onsemi.com/pub/Collateral/MC33264-D.PDF
footprint 846A-02 (Shrink Small Outline; 8 Leads; Body Width 3 mm; Pitch 0.65 mm)
pins: 1 IN (power), 2 ON/OFF (in), 3 ~{ON/OFF} (in), 4 NC, 5 ADJ (in), 6 GND (power), 7 BASE, 8 OUT (power)

## MC33264DM-3.3
designator U?
Low Dropout MicroPower Voltage Regulator with On/Off Control; Published: 15-Apr-2002; DatasheetVersion: 1998; PackageVersion: Oct-1999; PackageReference: 846A-02; Publisher: Altium Limited; PackageDescription: Shrink Small Outline; 8 Leads; Body Width 3 mm; Pitch 0.65 mm; ComponentLink1Description: Manufacturer Link; ComponentLink1URL: http://www.onsemi.com/site/products/taxonomy/0,4438,503,00.html; ComponentLink2Description: Datasheet; ComponentLink2URL: http://www.onsemi.com/pub/Collateral/MC33264-D.PDF
footprint 846A-02 (Shrink Small Outline; 8 Leads; Body Width 3 mm; Pitch 0.65 mm)
pins: 1 IN (power), 2 ON/OFF (in), 3 ~{ON/OFF} (in), 4 NC, 5 ADJ (in), 6 GND (power), 7 BASE, 8 OUT (power)

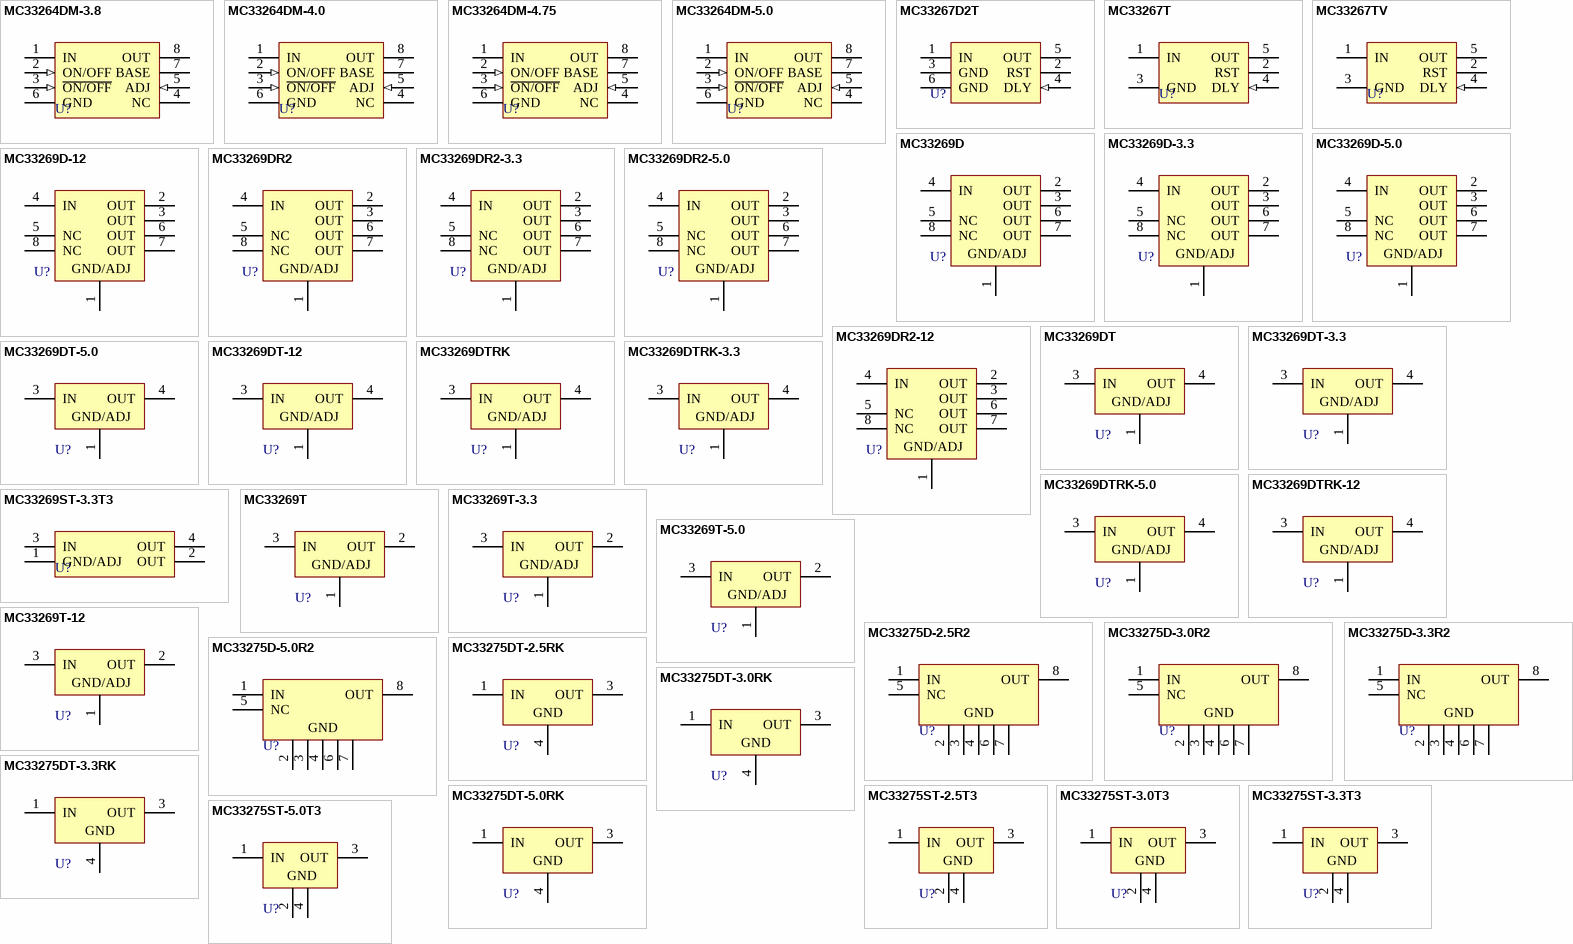
[diagram p11: symbols MC33264DM-3.8 to MC33275ST-5.0T3]

## MC33264DM-3.8
designator U?
Low Dropout MicroPower Voltage Regulator with On/Off Control; Published: 15-Apr-2002; DatasheetVersion: 1998; PackageVersion: Oct-1999; PackageReference: 846A-02; Publisher: Altium Limited; PackageDescription: Shrink Small Outline; 8 Leads; Body Width 3 mm; Pitch 0.65 mm; ComponentLink1Description: Manufacturer Link; ComponentLink1URL: http://www.onsemi.com/site/products/taxonomy/0,4438,503,00.html; ComponentLink2Description: Datasheet; ComponentLink2URL: http://www.onsemi.com/pub/Collateral/MC33264-D.PDF
footprint 846A-02 (Shrink Small Outline; 8 Leads; Body Width 3 mm; Pitch 0.65 mm)
pins: 1 IN (power), 2 ON/OFF (in), 3 ~{ON/OFF} (in), 4 NC, 5 ADJ (in), 6 GND (power), 7 BASE, 8 OUT (power)

## MC33264DM-4.0
designator U?
Low Dropout MicroPower Voltage Regulator with On/Off Control; Published: 15-Apr-2002; DatasheetVersion: 1998; PackageVersion: Oct-1999; PackageReference: 846A-02; Publisher: Altium Limited; PackageDescription: Shrink Small Outline; 8 Leads; Body Width 3 mm; Pitch 0.65 mm; ComponentLink1Description: Manufacturer Link; ComponentLink1URL: http://www.onsemi.com/site/products/taxonomy/0,4438,503,00.html; ComponentLink2Description: Datasheet; ComponentLink2URL: http://www.onsemi.com/pub/Collateral/MC33264-D.PDF
footprint 846A-02 (Shrink Small Outline; 8 Leads; Body Width 3 mm; Pitch 0.65 mm)
pins: 1 IN (power), 2 ON/OFF (in), 3 ~{ON/OFF} (in), 4 NC, 5 ADJ (in), 6 GND (power), 7 BASE, 8 OUT (power)

## MC33264DM-4.75
designator U?
Low Dropout MicroPower Voltage Regulator with On/Off Control; Published: 15-Apr-2002; DatasheetVersion: 1998; PackageVersion: Oct-1999; PackageReference: 846A-02; Publisher: Altium Limited; PackageDescription: Shrink Small Outline; 8 Leads; Body Width 3 mm; Pitch 0.65 mm; ComponentLink1Description: Manufacturer Link; ComponentLink1URL: http://www.onsemi.com/site/products/taxonomy/0,4438,503,00.html; ComponentLink2Description: Datasheet; ComponentLink2URL: http://www.onsemi.com/pub/Collateral/MC33264-D.PDF
footprint 846A-02 (Shrink Small Outline; 8 Leads; Body Width 3 mm; Pitch 0.65 mm)
pins: 1 IN (power), 2 ON/OFF (in), 3 ~{ON/OFF} (in), 4 NC, 5 ADJ (in), 6 GND (power), 7 BASE, 8 OUT (power)

## MC33264DM-5.0
designator U?
Low Dropout MicroPower Voltage Regulator with On/Off Control; Published: 15-Apr-2002; DatasheetVersion: 1998; PackageVersion: Oct-1999; PackageReference: 846A-02; Publisher: Altium Limited; PackageDescription: Shrink Small Outline; 8 Leads; Body Width 3 mm; Pitch 0.65 mm; ComponentLink1Description: Manufacturer Link; ComponentLink1URL: http://www.onsemi.com/site/products/taxonomy/0,4438,503,00.html; ComponentLink2Description: Datasheet; ComponentLink2URL: http://www.onsemi.com/pub/Collateral/MC33264-D.PDF
footprint 846A-02 (Shrink Small Outline; 8 Leads; Body Width 3 mm; Pitch 0.65 mm)
pins: 1 IN (power), 2 ON/OFF (in), 3 ~{ON/OFF} (in), 4 NC, 5 ADJ (in), 6 GND (power), 7 BASE, 8 OUT (power)

## MC33267D2T
designator U?
Low Dropout Regulator; Note: Pin 3 is electrically connected to Pin 6 (TAB);Pin 6 is the heatsink; Published: 15-Apr-2002; DatasheetVersion: 1996; PackageVersion: Jul-1999; PackageReference: 936A-02; Publisher: Altium Limited; PackageDescription: D2-PAK; 5 Leads; Body 14.7 (inc. leads) x 10.2 mm (LxW max); ComponentLink1Description: Manufacturer Link; ComponentLink1URL: http://www.onsemi.com/site/products/taxonomy/0,4438,503,00.html; ComponentLink2Description: Datasheet; ComponentLink2URL: http://www.onsemi.com/pub/Collateral/MC33267-D.PDF
footprint 936A-02 (D2-PAK; 5 Leads; Body 14.7 (inc. leads) x 10.2 mm (LxW max))
pins: 1 IN (power), 2 RST (oc), 3 GND (power), 4 DLY (in), 5 OUT (power), 6 GND (power)

## MC33267T
designator U?
Low Dropout Regulator; Note: Pin 3 is heatsink; Published: 15-Apr-2002; DatasheetVersion: 1996; PackageVersion: Jul-1999; PackageReference: 314D-03; Publisher: Altium Limited; PackageDescription: TO, Thru-Hole, Vertical, Heatsink Mounted; 5 In-Line Leads; Pitch 1.70 mm; Code_JEDEC: TS-001-AA; ComponentLink1Description: Manufacturer Link; ComponentLink1URL: http://www.onsemi.com/site/products/taxonomy/0,4438,503,00.html; ComponentLink2Description: Datasheet; ComponentLink2URL: http://www.onsemi.com/pub/Collateral/MC33267-D.PDF
footprint 314D-03 (TO, Thru-Hole, Vertical, Heatsink Mounted; 5 In-Line Leads; Pitch 1.70 mm)
pins: 1 IN (power), 2 RST (oc), 3 GND (power), 4 DLY (in), 5 OUT (power)

## MC33267TV
designator U?
Low Dropout Regulator; Note: Pin 3 is heatsink; Published: 15-Apr-2002; DatasheetVersion: 1996; PackageVersion: Jul-1999; PackageReference: 314B-05; Publisher: Altium Limited; PackageDescription: TO, Thru-Hole, Vertical, Heatsink Mounted; 5 Bent Staggered Leads; Pitch 1.7mm; ComponentLink1Description: Manufacturer Link; ComponentLink1URL: http://www.onsemi.com/site/products/taxonomy/0,4438,503,00.html; ComponentLink2Description: Datasheet; ComponentLink2URL: http://www.onsemi.com/pub/Collateral/MC33267-D.PDF
footprint 314B-05 (TO, Thru-Hole, Vertical, Heatsink Mounted; 5 Bent Staggered Leads; Pitch 1.7mm)
pins: 1 IN (power), 2 RST (oc), 3 GND (power), 4 DLY (in), 5 OUT (power)

## MC33269D
designator U?
Low Dropout Positive Adjustable Voltage Regulator; Published: 15-Apr-2002; LatestRevisionDate: 13-Apr-2006; LatestRevisionNote: IPC-7351 Footprint Added.; DatasheetVersion: Apr-2000; PackageVersion: 1998; PackageReference: 751-05; Publisher: Altium Limited; PackageDescription: 8-Pin Small Outline Integrated Circuit 1.27 mm Pitch; Code_JEDEC: MS-012-AA; Code_IPC: SOIC127P600-8; ComponentLink1Description: Manufacturer Link; ComponentLink1URL: http://www.onsemi.com/site/products/taxonomy/0,4438,503,00.html; ComponentLink2Description: Datasheet; ComponentLink2URL: http://www.onsemi.com/pub/Collateral/MC33269-D.PDF
footprint 751-05_N (SOIC, 8-Leads, Body 4.9x3.9mm, Pitch 1.27mm, IPC Medium Density)
footprint 751-05_L (SOIC, 8-Leads, Body 4.9x3.9mm, Pitch 1.27mm, IPC High Density)
footprint 751-05_M (SOIC, 8-Leads, Body 4.9x3.9mm, Pitch 1.27mm, IPC Low Density)
pins: 1 GND/ADJ (power), 2 OUT (power), 3 OUT (power), 4 IN (power), 5 NC, 6 OUT (power), 7 OUT (power), 8 NC

## MC33269D-3.3
designator U?
Low Dropout Positive Fixed Voltage Regulator; Published: 15-Apr-2002; LatestRevisionDate: 13-Apr-2006; LatestRevisionNote: IPC-7351 Footprint Added.; DatasheetVersion: Apr-2000; PackageVersion: 1998; PackageReference: 751-05; Publisher: Altium Limited; PackageDescription: 8-Pin Small Outline Integrated Circuit 1.27 mm Pitch; Code_JEDEC: MS-012-AA; Code_IPC: SOIC127P600-8; ComponentLink1Description: Manufacturer Link; ComponentLink1URL: http://www.onsemi.com/site/products/taxonomy/0,4438,503,00.html; ComponentLink2Description: Datasheet; ComponentLink2URL: http://www.onsemi.com/pub/Collateral/MC33269-D.PDF
footprint 751-05_N (SOIC, 8-Leads, Body 4.9x3.9mm, Pitch 1.27mm, IPC Medium Density)
footprint 751-05_L (SOIC, 8-Leads, Body 4.9x3.9mm, Pitch 1.27mm, IPC High Density)
footprint 751-05_M (SOIC, 8-Leads, Body 4.9x3.9mm, Pitch 1.27mm, IPC Low Density)
pins: 1 GND/ADJ (power), 2 OUT (power), 3 OUT (power), 4 IN (power), 5 NC, 6 OUT (power), 7 OUT (power), 8 NC

## MC33269D-5.0
designator U?
Low Dropout Positive Fixed Voltage Regulator; Published: 15-Apr-2002; LatestRevisionDate: 13-Apr-2006; LatestRevisionNote: IPC-7351 Footprint Added.; DatasheetVersion: Apr-2000; PackageVersion: 1998; PackageReference: 751-05; Publisher: Altium Limited; PackageDescription: 8-Pin Small Outline Integrated Circuit 1.27 mm Pitch; Code_JEDEC: MS-012-AA; Code_IPC: SOIC127P600-8; ComponentLink1Description: Manufacturer Link; ComponentLink1URL: http://www.onsemi.com/site/products/taxonomy/0,4438,503,00.html; ComponentLink2Description: Datasheet; ComponentLink2URL: http://www.onsemi.com/pub/Collateral/MC33269-D.PDF
footprint 751-05_N (SOIC, 8-Leads, Body 4.9x3.9mm, Pitch 1.27mm, IPC Medium Density)
footprint 751-05_L (SOIC, 8-Leads, Body 4.9x3.9mm, Pitch 1.27mm, IPC High Density)
footprint 751-05_M (SOIC, 8-Leads, Body 4.9x3.9mm, Pitch 1.27mm, IPC Low Density)
pins: 1 GND/ADJ (power), 2 OUT (power), 3 OUT (power), 4 IN (power), 5 NC, 6 OUT (power), 7 OUT (power), 8 NC

## MC33269D-12
designator U?
Low Dropout Positive Fixed Voltage Regulator; Published: 15-Apr-2002; LatestRevisionDate: 13-Apr-2006; LatestRevisionNote: IPC-7351 Footprint Added.; DatasheetVersion: Apr-2000; PackageVersion: 1998; PackageReference: 751-05; Publisher: Altium Limited; PackageDescription: 8-Pin Small Outline Integrated Circuit 1.27 mm Pitch; Code_JEDEC: MS-012-AA; Code_IPC: SOIC127P600-8; ComponentLink1Description: Manufacturer Link; ComponentLink1URL: http://www.onsemi.com/site/products/taxonomy/0,4438,503,00.html; ComponentLink2Description: Datasheet; ComponentLink2URL: http://www.onsemi.com/pub/Collateral/MC33269-D.PDF
footprint 751-05_N (SOIC, 8-Leads, Body 4.9x3.9mm, Pitch 1.27mm, IPC Medium Density)
footprint 751-05_L (SOIC, 8-Leads, Body 4.9x3.9mm, Pitch 1.27mm, IPC High Density)
footprint 751-05_M (SOIC, 8-Leads, Body 4.9x3.9mm, Pitch 1.27mm, IPC Low Density)
pins: 1 GND/ADJ (power), 2 OUT (power), 3 OUT (power), 4 IN (power), 5 NC, 6 OUT (power), 7 OUT (power), 8 NC

## MC33269DR2
designator U?
Low Dropout Positive Adjustable Voltage Regulator; Published: 15-Apr-2002; LatestRevisionDate: 13-Apr-2006; LatestRevisionNote: IPC-7351 Footprint Added.; DatasheetVersion: Apr-2000; PackageVersion: 1998; PackageReference: 751-05; Publisher: Altium Limited; PackageDescription: 8-Pin Small Outline Integrated Circuit 1.27 mm Pitch; Code_JEDEC: MS-012-AA; Code_IPC: SOIC127P600-8; ComponentLink1Description: Manufacturer Link; ComponentLink1URL: http://www.onsemi.com/site/products/taxonomy/0,4438,503,00.html; ComponentLink2Description: Datasheet; ComponentLink2URL: http://www.onsemi.com/pub/Collateral/MC33269-D.PDF
footprint 751-05_N (SOIC, 8-Leads, Body 4.9x3.9mm, Pitch 1.27mm, IPC Medium Density)
footprint 751-05_L (SOIC, 8-Leads, Body 4.9x3.9mm, Pitch 1.27mm, IPC High Density)
footprint 751-05_M (SOIC, 8-Leads, Body 4.9x3.9mm, Pitch 1.27mm, IPC Low Density)
pins: 1 GND/ADJ (power), 2 OUT (power), 3 OUT (power), 4 IN (power), 5 NC, 6 OUT (power), 7 OUT (power), 8 NC